# Altium footprint library Seeed-OPL-sensor.PCBLIB: 57 footprints (part 3 of 4)
Each footprint in its own frame and in the unit in brackets; x right, y up, seen from the top. Pads: shape width x height; smd on the part's side, far side on the other; paste and mask are expansions set on the pad; w line width, h text height; cw(c..) or ccw(c..) is an arc to the next point about the centre after c.
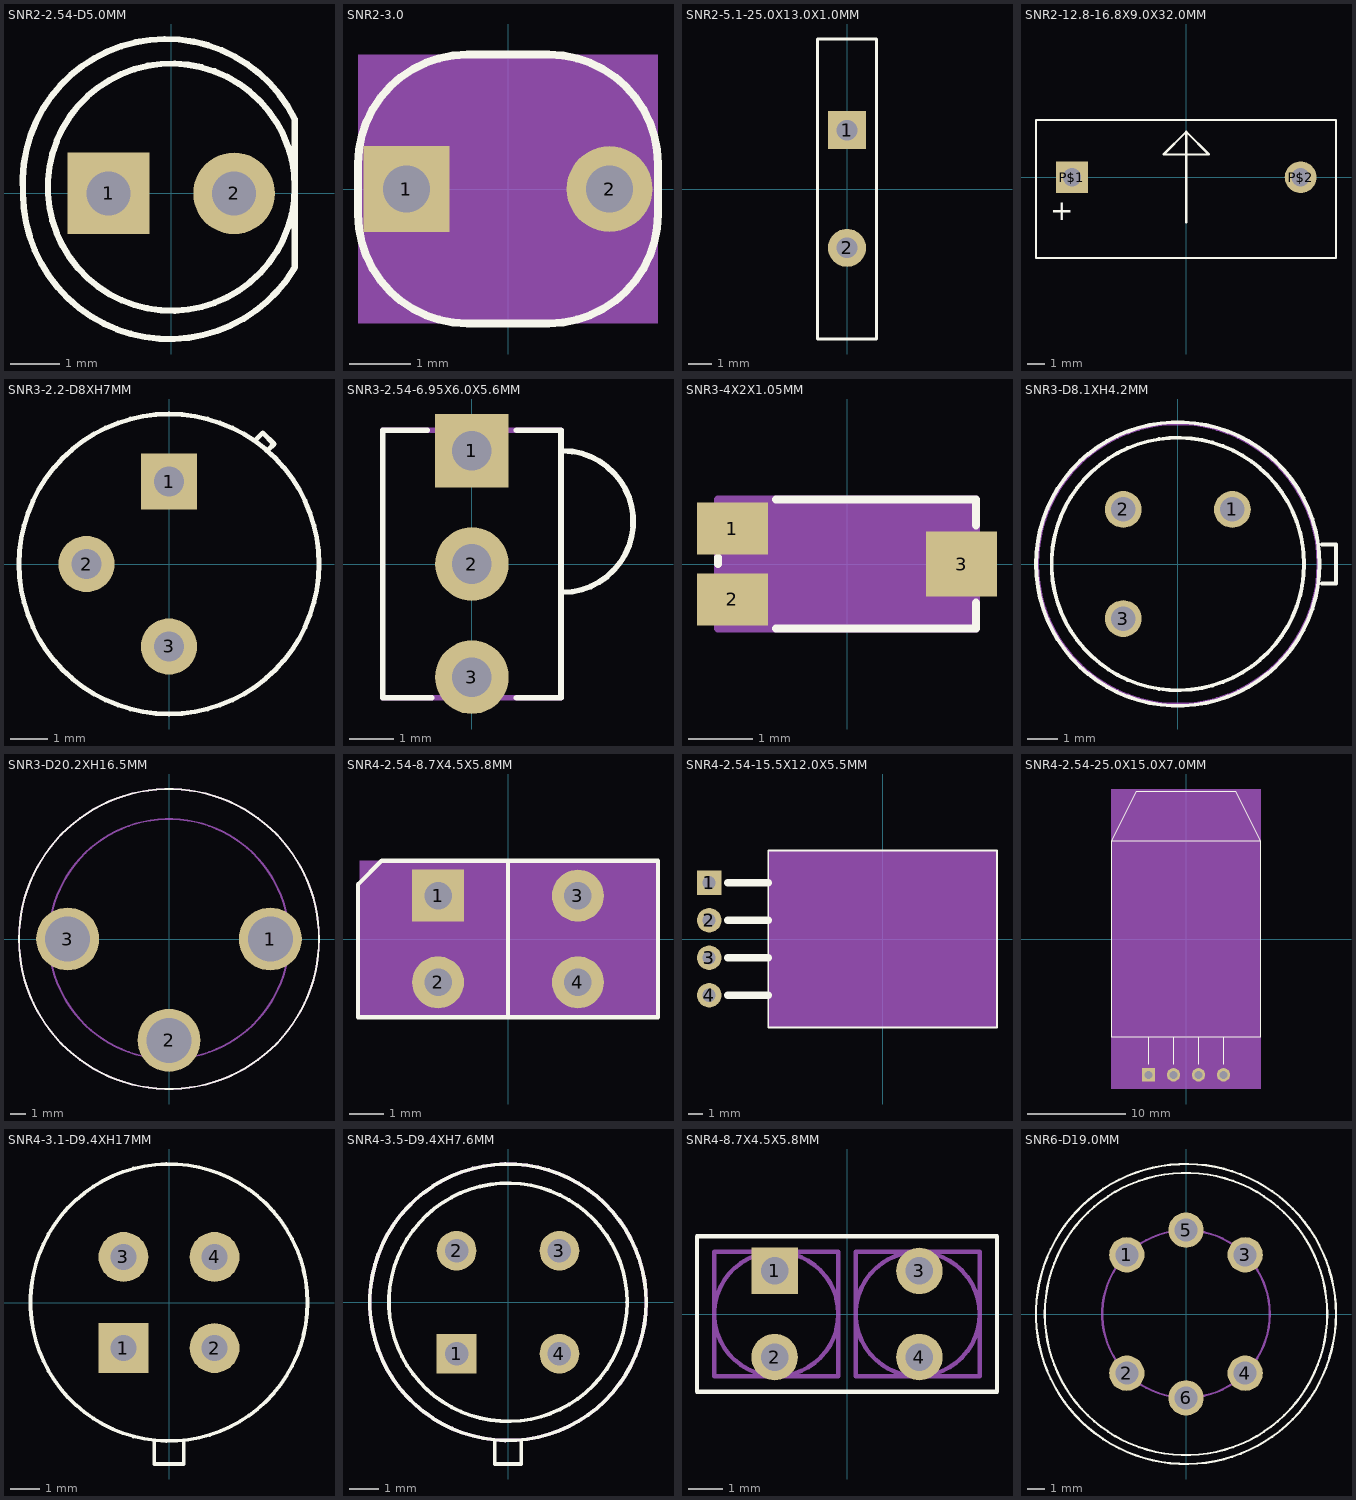
[diagram p2: the footprints below, top view; thin cyan lines are the x and y axes]

## SNR2-2.54-D5.0MM [mil]
pads (2):
  rect 65x65 hole 35: 1(-50,0)
  round 65 hole 35: 2(50,0)
Top Overlay:
  circle w5: c0,5 r98.43
  lines w5: -118.11,0 ccw(c-1.66,0.46) 98.43,-59.06 98.43,59.06 ccw(c-4.15,8.68) -118.11,0

## SNR2-3.0 [mil]
pads (2):
  rect 55x55 hole 30: 1(-65,0)
  round 55 hole 30: 2(65,0)
Top Overlay:
  lines w5: -96,-16 ccw(c-26,-16) -26,-86 26,-86 ccw(c26,-16) 96,-16 96,16 ccw(c26,16) 26,86 -26,86 ccw(c-26,16) -96,16 -96,-16
Mechanical 27:
  rectangle: -96,-86 96,86

## SNR2-5.1-25.0X13.0X1.0MM [mil]
pads (2):
  rect 65x65 hole 35: 1(0,100.39)
  round 65 hole 35: 2(0,-100.39)
Top Overlay:
  lines w5: -50,-255.91 50,-255.91 50,255.91 -50,255.91 -50,-255.91

## SNR2-12.8-16.8X9.0X32.0MM [mil]
pads (2):
  rect 70x70 hole 40: P$1(-251.97,0)
  round 70 hole 40: P$2(251.97,0)
Top Overlay:
  lines w5: 0,-100 0,100 ; 0,100 -50,50 50,50 0,100 ; -331,-178 330,-178 330,126 -331,126 -331,-178
  text "+" at -300,-110 h77.5

## SNR3-2.2-D8XH7MM [mil]
pads (3):
  rect 59.06x59.06 hole 31.5: 1(0,86.61)
  round 59.06 hole 31.5: 2(-86.61,0) 3(0,-86.61)
Top Overlay:
  circle w5: c0,0 r157.48
  lines w5: 90.55,129.92 98.43,137.8 110.24,125.98 104.33,120.08
Mechanical 27:
  circle w0: c0,0 r157.48

## SNR3-2.54-6.95X6.0X5.6MM [mil]
pads (3):
  rect 65x65 hole 35: 1(0,100)
  round 65 hole 35: 2(0,0) 3(0,-100)
Top Overlay:
  lines w5: -39.37,118.11 -78.74,118.11 -78.74,-118.11 -35.43,-118.11 ; 39.37,-118.11 78.74,-118.11 78.74,118.11 39.37,118.11 ; 80,-25 ccw(c80,37.5) 80,100
Mechanical 16:
  lines w5: -78.74,-118.11 78.74,-118.11 ; -78.74,118.11 78.74,118.11

## SNR3-4X2X1.05MM [mil]
pads (3):
  rect 43.31x31.5 smd: 1(-69.88,21.65) 2(-69.88,-21.65)
  rect 43.31x39.37 smd: 3(69.88,0)
Top Overlay:
  lines w5: -78.74,0 -78.74,3.94 ; -43.31,-39.37 78.74,-39.37 78.74,-23.62 ; -43.31,39.37 78.74,39.37 78.74,23.62
Mechanical 16:
  lines w5: -78.74,-39.37 78.74,-39.37 78.74,39.37 -78.74,39.37 -78.74,-39.37
Mechanical 27:
  rectangle: -78.74,-39.37 78.74,39.37

## SNR3-D8.1XH4.2MM [mil]
pads (3):
  round 47.25 hole 31.5: 1(70,70) 2(-70,70) 3(-70,-70)
Top Overlay:
  circle w5: c0,0 r182
  circle w5: c0,0 r162
  lines w5: 185,-25 203,-25 203,25 185,25
Mechanical 27:
  circle w5: c0,0 r180.62

## SNR3-D20.2XH16.5MM [mm]
pads (3):
  round 4.2 hole 3: 1(6.75,0) 2(0,-6.75) 3(-6.75,0)
Top Overlay:
  circle w0.127: c0,0 r10
Mechanical 16:
  circle w0.127: c0,0 r8
Mechanical 27:
  circle w0.127: c0,0 r10

## SNR4-2.54-8.7X4.5X5.8MM [mil]
pads (4):
  rect 60x60 hole 32: 1(-80.71,50)
  round 60 hole 32: 2(-80.71,-50) 3(80.71,50) 4(80.71,-50)
Top Overlay:
  lines w5: 0,-90.55 -173.23,-90.55 -173.23,63.08 -145.76,90.55 0,90.55 ; 0,-90.55 173.23,-90.55 173.23,90.55 0,90.55 ; 0,-90.55 0,90.55
Mechanical 16:
  circle w5: c-90.55,0 r68.9
  circle w5: c90.55,0 r68.9
Mechanical 27:
  rectangle: -171.26,-90.55 171.26,90.55

## SNR4-2.54-15.5X12.0X5.5MM [mil]
pads (4):
  rect 65x65 hole 35: 1(-462.6,150)
  round 65 hole 35: 2(-462.6,50) 3(-462.6,-50) 4(-462.6,-150)
Top Overlay:
  lines w5: -305.12,-236.22 305.12,-236.22 305.12,236.22 -305.12,236.22 -305.12,-236.22
  lines w20: -413.39,-150 -305,-150 ; -413.39,-50 -305,-50 ; -413.39,50 -305,50 ; -413.39,150 -305,150
Mechanical 27:
  rectangle: -305,-235 305,235

## SNR4-2.54-25.0X15.0X7.0MM [mm]
pads (4):
  rect 1.35x1.35 hole 0.8: P$1(-3.81,-13.8)
  round 1.35 hole 0.8: P$2(-1.27,-13.8) P$3(1.27,-13.8) P$4(3.81,-13.8)
Top Overlay:
  lines w0.127: -3.81,-12.7 -3.81,-10 ; -1.27,-12.7 -1.27,-10 ; 1.27,-12.7 1.27,-10 ; 3.81,-12.7 3.81,-10 ; -7.55,10 7.55,10 ; -7.55,10 -7.55,-10 -3.81,-10 ; -7.55,10 -5,15 5,15 7.55,10 ; -3.81,-10 -1.27,-10 ; -1.27,-10 1.27,-10 ; 1.27,-10 3.81,-10 ; 3.81,-10 7.55,-10 7.55,10
Mechanical 27:
  rectangle: -7.62,-15.24 7.62,15.24

## SNR4-3.1-D9.4XH17MM [mm]
pads (4):
  rect 1.7x1.7 hole 0.9: 1(-1.55,-1.55)
  round 1.7 hole 0.9: 2(1.55,-1.55) 3(-1.55,1.55) 4(1.55,1.55)
Top Overlay:
  circle w0.127: c0,0 r4.717
  lines w0.127: -0.5,-4.7 -0.5,-5.5 0.5,-5.5 0.5,-4.7

## SNR4-3.5-D9.4XH7.6MM [mm]
pads (4):
  rect 1.35x1.35 hole 0.8: 1(-1.75,-1.75)
  round 1.35 hole 0.8: 2(-1.75,1.75) 3(1.75,1.75) 4(1.75,-1.75)
Top Overlay:
  circle w0.127: c0,0 r4.7
  circle w0.127: c0,0 r4.05
  lines w0.127: -0.45,-4.7 -0.45,-5.5 0.45,-5.5 0.45,-4.7
Mechanical 27:
  circle w0.127: c0,0 r4.7

## SNR4-8.7X4.5X5.8MM [mm]
pads (4):
  rect 1.35x1.35 hole 0.8: 1(-2.1,1.25)
  round 1.35 hole 0.8: 2(-2.1,-1.25) 3(2.1,1.25) 4(2.1,-1.25)
Top Overlay:
  lines w0.127: -4.35,-2.25 4.35,-2.25 4.35,2.25 -4.35,2.25 -4.35,-2.25
Mechanical 16:
  circle w0.127: c-2.05,0 r1.8
  circle w0.127: c2.05,0 r1.8
  lines w0.127: -3.85,-1.8 -0.25,-1.8 -0.25,1.8 -3.85,1.8 -3.85,-1.8 ; 0.25,-1.8 0.25,1.8 3.85,1.8 3.85,-1.8 0.25,-1.8

## SNR6-D19.0MM [mm]
pads (6):
  round 2 hole 1.3: 1(-3.355,3.355) 2(-3.355,-3.355) 3(3.355,3.355) 4(3.355,-3.355) 5(0,4.75) 6(0,-4.75)
Top Overlay:
  circle w0.127: c0,0 r8.5
  circle w0.127: c0,0 r8
Mechanical 16:
  circle w0.127: c0,0 r4.75
Mechanical 27:
  circle w0.127: c0,0 r4.75